# Altium schematic symbol library DM3AT-SF-PEJM5.SchLib: 1 symbol
Pins are listed as number, name and electrical type; pins without a type are passive.

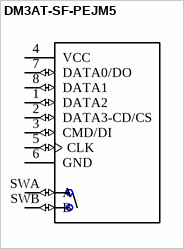
[diagram p0: symbol DM3AT-SF-PEJM5]

## DM3AT-SF-PEJM5
designator J?  (value not drawn)
DM3 Series 8 Position Right Angle SMT Push Push Ejection MicroSD Card Connector; MF: Hirose; Price: 1.92 USD; MP: DM3AT-SF-PEJM5; Availability: Good; Package: None; Value: *
footprint HRS_DM3AT-SF-PEJM5_DM3AT-SF-PEJM5(Primary)
pins: 1 DATA2 (io), 2 DATA3-CD/CS (io), 3 CMD/DI (io), 4 VCC (power), 5 CLK (io), 6 GND (power), 7 DATA0/DO (io), 8 DATA1 (io), SWA A (io), SWB B (io)